# Altium footprint library AON7544.PcbLib: 1 footprints
Each footprint in its own frame and in the unit in brackets; x right, y up, seen from the top. Pads: shape width x height; smd on the part's side, far side on the other; paste and mask are expansions set on the pad; w line width, h text height; cw(c..) or ccw(c..) is an arc to the next point about the centre after c.
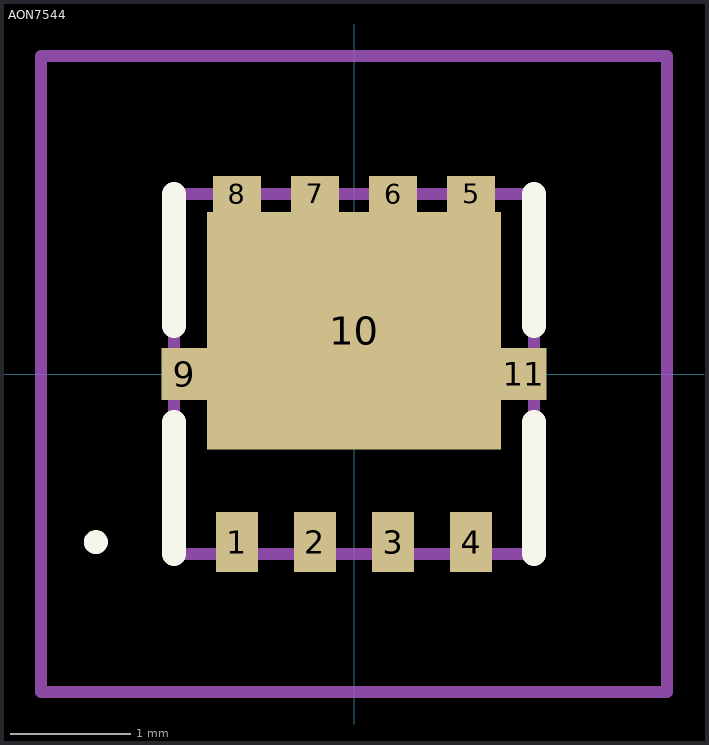
[diagram p0: the footprint, top view; thin cyan lines are the x and y axes]

## AON7544 [mm]
pads (11):
  rect 0.35x0.5 smd: 1(-0.975,-1.4) 2(-0.325,-1.4) 3(0.325,-1.4) 4(0.975,-1.4)
  rect 0.4x0.3 smd: 5(0.975,1.5) 6(0.325,1.5) 7(-0.325,1.5) 8(-0.975,1.5)
  rect 0.38x0.43 smd: 9(-1.415,0) 11(1.415,0)
  rect 2.45x1.98 smd: 10(0,0.36)
Top Overlay:
  lines w0.1: -2.2,-1.4 -2.2,-1.4 ; -2.2,-1.4 ccw(c-2.15,-1.4) -2.1,-1.4 ; -2.2,-1.4 cw(c-2.15,-1.4) -2.1,-1.4 ; -2.1,-1.4 -2.1,-1.4
  lines w0.2: -1.5,-1.5 -1.5,-0.4 ; -1.5,0.4 -1.5,1.5 ; 1.5,-1.5 1.5,-0.4 ; 1.5,0.4 1.5,1.5
Mechanical 15:
  lines w0.1: -1.5,-1.5 1.5,-1.5 1.5,1.5 -1.5,1.5 -1.5,-1.5
Mechanical 20:
  lines w0.1: -2.605,-2.65 2.605,-2.65 2.605,2.65 -2.605,2.65 -2.605,-2.65
3D body "AON7544.stp": height 5.8, standoff -4.65, extent -10,-3.376 10,3.376